# Altium schematic symbol library HLK-PM01.SCHLIB: 1 symbol
Pins are listed as number, name and electrical type; pins without a type are passive.

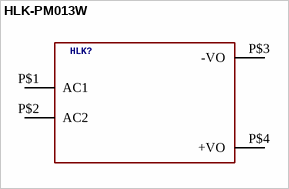
[diagram p0: symbol HLK-PM013W]

## HLK-PM013W
designator HLK?, comment Hi-Link Power Supply HLK-PM01 3W Author: Ahmed Said  (value not drawn)
GateName_1: G$1; SymbolName_1: PS; DeviceName: 3W; LibraryName: HLK-PM01; DeviceSetName: HLK-PM01; Package: HLK-PM01
footprint HLK-PM01
pins: P$1 AC1, P$2 AC2, P$3 -VO, P$4 +VO